# EAGLE library part ICE40HX4K-BG121 (library lattice)
IC FPGA 93 I/O 121CABGA
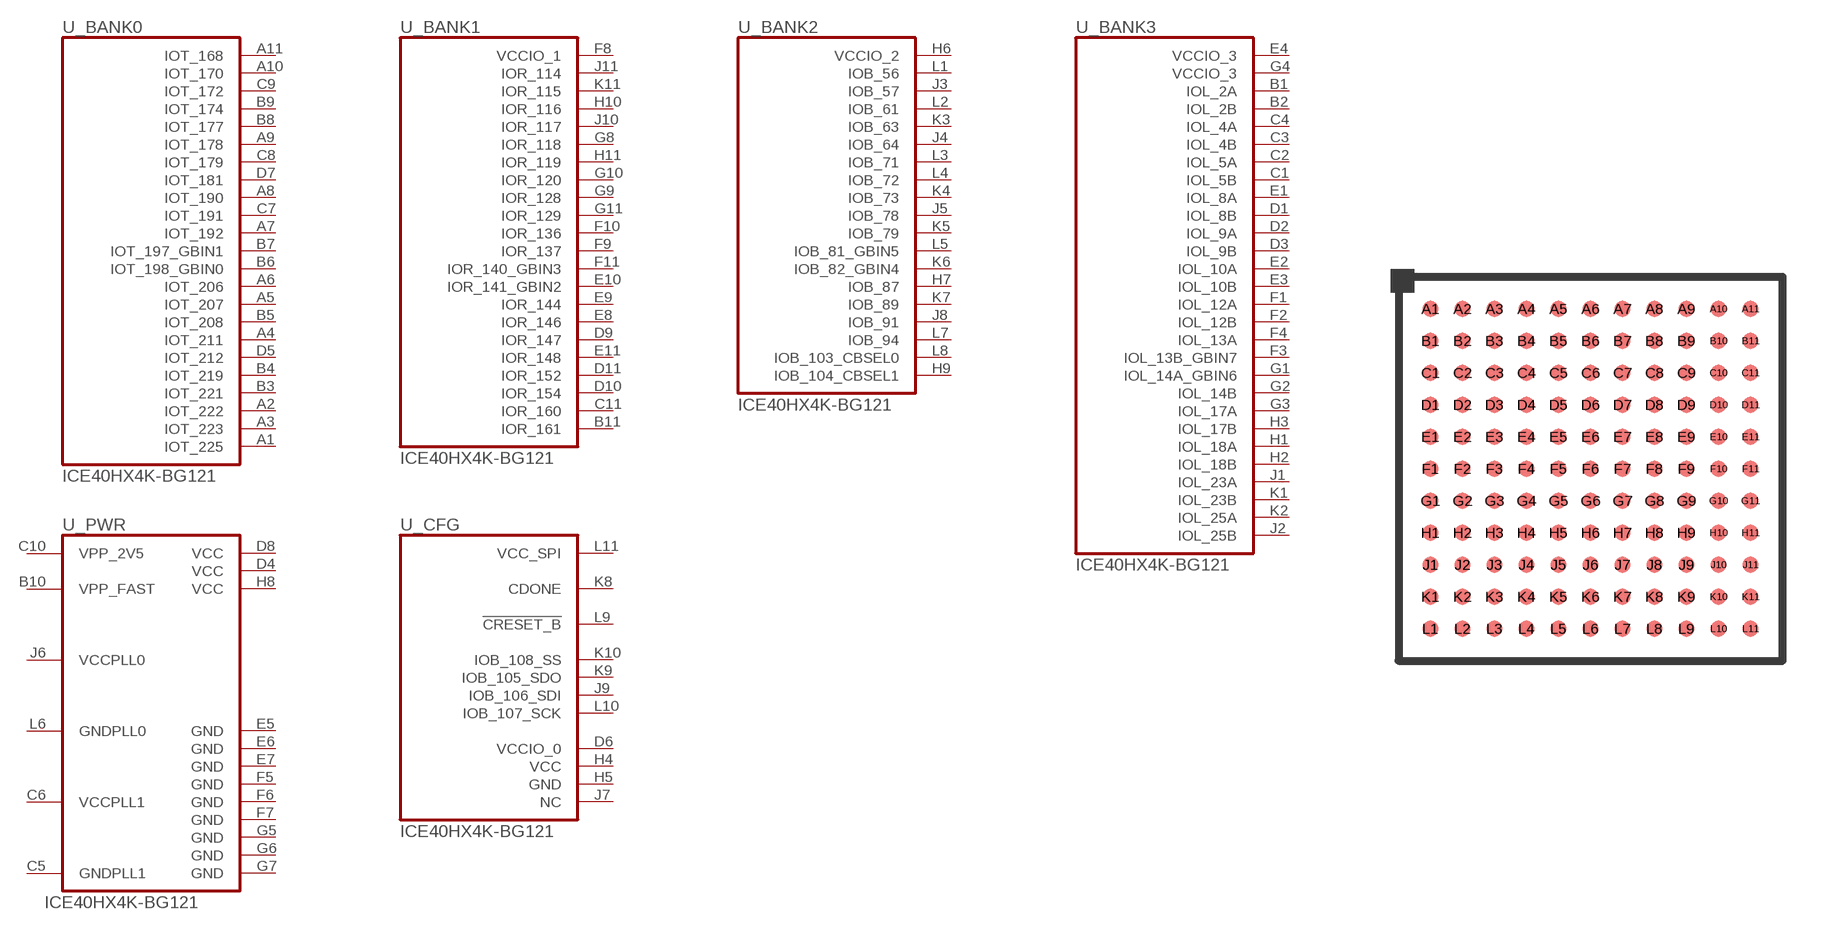
[diagram p12: symbol with the pads of CABGA121; footprint CABGA121]

Designator prefix U; gates _BANK0=ICE40HX4K-BG121_BANK0 _BANK1=ICE40HX4K-BG121_BANK1 _BANK2=ICE40HX4K-BG121_BANK2 _CFG=ICE40HX4K-BG121_CFG _PWR=ICE40HX4K-BG121_PWR _BANK3=ICE40HX4K-BG121_BANK3

## ICE40HX4K-BG121  [CABGA121]
A1  _BANK0:IOT_225
A2  _BANK0:IOT_222
A3  _BANK0:IOT_223
A4  _BANK0:IOT_211
A5  _BANK0:IOT_207
A6  _BANK0:IOT_206
A7  _BANK0:IOT_192
A8  _BANK0:IOT_190
A9  _BANK0:IOT_178
A10  _BANK0:IOT_170
A11  _BANK0:IOT_168
B1  _BANK3:IOL_2A
B2  _BANK3:IOL_2B
B3  _BANK0:IOT_221
B4  _BANK0:IOT_219
B5  _BANK0:IOT_208
B6  _BANK0:IOT_198_GBIN0
B7  _BANK0:IOT_197_GBIN1
B8  _BANK0:IOT_177
B9  _BANK0:IOT_174
B10  _PWR:VPP_FAST
B11  _BANK1:IOR_161
C1  _BANK3:IOL_5B
C2  _BANK3:IOL_5A
C3  _BANK3:IOL_4B
C4  _BANK3:IOL_4A
C5  _PWR:GNDPLL1
C6  _PWR:VCCPLL1
C7  _BANK0:IOT_191
C8  _BANK0:IOT_179
C9  _BANK0:IOT_172
C10  _PWR:VPP_2V5
C11  _BANK1:IOR_160
D1  _BANK3:IOL_8B
D2  _BANK3:IOL_9A
D3  _BANK3:IOL_9B
D4  _PWR:VCC
D5  _BANK0:IOT_212
D6  _CFG:VCCIO_0  nc
D7  _BANK0:IOT_181
D8  _PWR:VCC
D9  _BANK1:IOR_147
D10  _BANK1:IOR_154
D11  _BANK1:IOR_152
E1  _BANK3:IOL_8A
E2  _BANK3:IOL_10A
E3  _BANK3:IOL_10B
E4  _BANK3:VCCIO_3
E5  _PWR:GND
E6  _PWR:GND
E7  _PWR:GND
E8  _BANK1:IOR_146
E9  _BANK1:IOR_144
E10  _BANK1:IOR_141_GBIN2
E11  _BANK1:IOR_148
F1  _BANK3:IOL_12A
F2  _BANK3:IOL_12B
F3  _BANK3:IOL_13B_GBIN7
F4  _BANK3:IOL_13A
F5  _PWR:GND
F6  _PWR:GND
F7  _PWR:GND
F8  _BANK1:VCCIO_1
F9  _BANK1:IOR_137
F10  _BANK1:IOR_136
F11  _BANK1:IOR_140_GBIN3
G1  _BANK3:IOL_14A_GBIN6
G2  _BANK3:IOL_14B
G3  _BANK3:IOL_17A
G4  _BANK3:VCCIO_3
G5  _PWR:GND
G6  _PWR:GND
G7  _PWR:GND
G8  _BANK1:IOR_118
G9  _BANK1:IOR_128
G10  _BANK1:IOR_120
G11  _BANK1:IOR_129
H1  _BANK3:IOL_18A
H2  _BANK3:IOL_18B
H3  _BANK3:IOL_17B
H4  _CFG:VCC  nc
H5  _CFG:GND  nc
H6  _BANK2:VCCIO_2
H7  _BANK2:IOB_87
H8  _PWR:VCC
H9  _BANK2:IOB_104_CBSEL1
H10  _BANK1:IOR_116
H11  _BANK1:IOR_119
J1  _BANK3:IOL_23A
J2  _BANK3:IOL_25B
J3  _BANK2:IOB_57
J4  _BANK2:IOB_64
J5  _BANK2:IOB_78
J6  _PWR:VCCPLL0
J7  _CFG:NC  nc
J8  _BANK2:IOB_91
J9  _CFG:IOB_106_SDI
J10  _BANK1:IOR_117
J11  _BANK1:IOR_114
K1  _BANK3:IOL_23B
K2  _BANK3:IOL_25A
K3  _BANK2:IOB_63
K4  _BANK2:IOB_73
K5  _BANK2:IOB_79
K6  _BANK2:IOB_82_GBIN4
K7  _BANK2:IOB_89
K8  _CFG:CDONE
K9  _CFG:IOB_105_SDO
K10  _CFG:IOB_108_SS
K11  _BANK1:IOR_115
L1  _BANK2:IOB_56
L2  _BANK2:IOB_61
L3  _BANK2:IOB_71
L4  _BANK2:IOB_72
L5  _BANK2:IOB_81_GBIN5
L6  _PWR:GNDPLL0
L7  _BANK2:IOB_94
L8  _BANK2:IOB_103_CBSEL0
L9  _CFG:!CRESET_B!
L10  _CFG:IOB_107_SCK
L11  _CFG:VCC_SPI

## Footprint CABGA121 (pad centres in mm)
121-Ball caBGA Package (9x9 mm Body)
smd 0.4 x 0.4: A1 -4,4; A2 -3.2,4; A3 -2.4,4; A4 -1.6,4; A5 -0.8,4; A6 0,4; A7 0.8,4; A8 1.6,4; A9 2.4,4; A10 3.2,4; A11 4,4; B1 -4,3.2; B2 -3.2,3.2; B3 -2.4,3.2; B4 -1.6,3.2; B5 -0.8,3.2; B6 0,3.2; B7 0.8,3.2; B8 1.6,3.2; B9 2.4,3.2; B10 3.2,3.2; B11 4,3.2; C1 -4,2.4; C2 -3.2,2.4; C3 -2.4,2.4; C4 -1.6,2.4; C5 -0.8,2.4; C6 0,2.4; C7 0.8,2.4; C8 1.6,2.4; C9 2.4,2.4; C10 3.2,2.4; C11 4,2.4; D1 -4,1.6; D2 -3.2,1.6; D3 -2.4,1.6; D4 -1.6,1.6; D5 -0.8,1.6; D6 0,1.6; D7 0.8,1.6; D8 1.6,1.6; D9 2.4,1.6; D10 3.2,1.6; D11 4,1.6; E1 -4,0.8; E2 -3.2,0.8; E3 -2.4,0.8; E4 -1.6,0.8; E5 -0.8,0.8; E6 0,0.8; E7 0.8,0.8; E8 1.6,0.8; E9 2.4,0.8; E10 3.2,0.8; E11 4,0.8; F1 -4,0; F2 -3.2,0; F3 -2.4,0; F4 -1.6,0; F5 -0.8,0; F6 0,0; F7 0.8,0; F8 1.6,0; F9 2.4,0; F10 3.2,0; F11 4,0; G1 -4,-0.8; G2 -3.2,-0.8; G3 -2.4,-0.8; G4 -1.6,-0.8; G5 -0.8,-0.8; G6 0,-0.8; G7 0.8,-0.8; G8 1.6,-0.8; G9 2.4,-0.8; G10 3.2,-0.8; G11 4,-0.8; H1 -4,-1.6; H2 -3.2,-1.6; H3 -2.4,-1.6; H4 -1.6,-1.6; H5 -0.8,-1.6; H6 0,-1.6; H7 0.8,-1.6; H8 1.6,-1.6; H9 2.4,-1.6; H10 3.2,-1.6; H11 4,-1.6; J1 -4,-2.4; J2 -3.2,-2.4; J3 -2.4,-2.4; J4 -1.6,-2.4; J5 -0.8,-2.4; J6 0,-2.4; J7 0.8,-2.4; J8 1.6,-2.4; J9 2.4,-2.4; J10 3.2,-2.4; J11 4,-2.4; K1 -4,-3.2; K2 -3.2,-3.2; K3 -2.4,-3.2; K4 -1.6,-3.2; K5 -0.8,-3.2; K6 0,-3.2; K7 0.8,-3.2; K8 1.6,-3.2; K9 2.4,-3.2; K10 3.2,-3.2; K11 4,-3.2; L1 -4,-4; L2 -3.2,-4; L3 -2.4,-4; L4 -1.6,-4; L5 -0.8,-4; L6 0,-4; L7 0.8,-4; L8 1.6,-4; L9 2.4,-4; L10 3.2,-4; L11 4,-4